# Altium integrated library Diodes - TVS.IntLib: 5379 symbols (part 37 of 122)
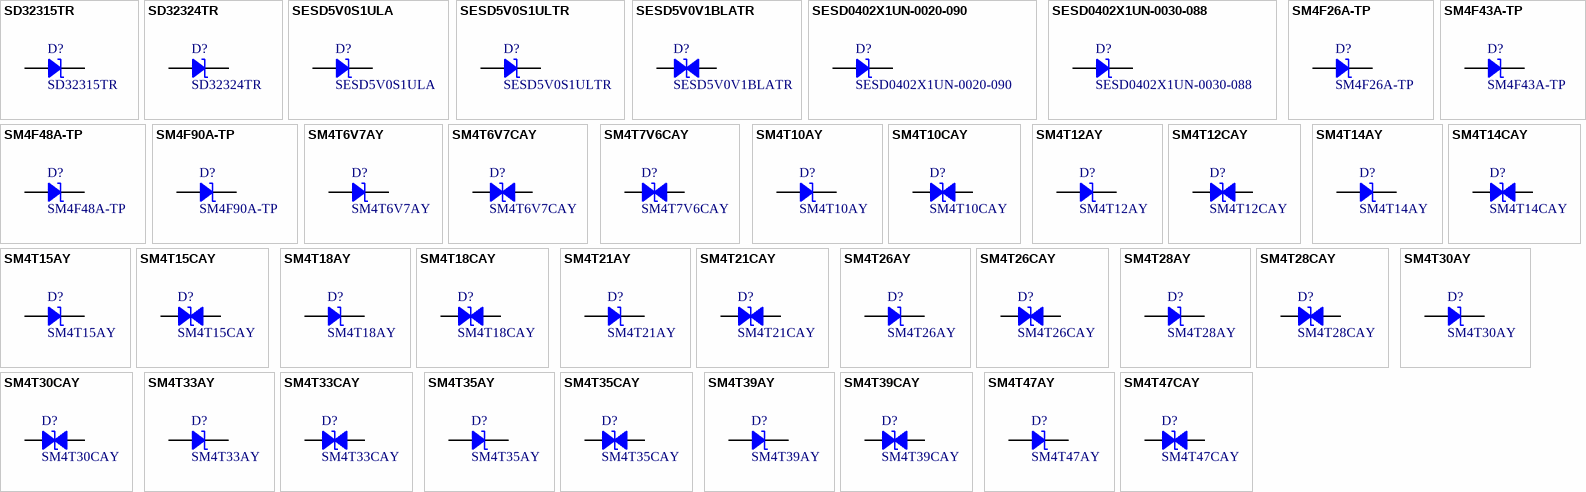
[diagram p170: symbols SD32315TR to SM4T47CAY]

## SD32315TR
designator D?
TVS DIODE 15V 24V SOD323; Manufacturer: SMC Diode Solutions; Capacitance @ Frequency: 140pF @ 1MHz; Current - Peak Pulse (10/1000µs): 1A (8/20µs); Power Line Protection: No; Power - Peak Pulse: 300W; Type: Zener; Unidirectional Channels: 1; Voltage - Breakdown (Min): 16.7V; Voltage - Reverse Standoff (Typ): 15V (Max); Part Number: SD32315TR; Applications: General Purpose; ComponentLink1Description: Datasheet; ComponentLink1URL: http://www.smc-diodes.com/propdf/SD32303%20THRU%20SD32324%20N0428%20REV.B.pdf; ComponentLink2Description: DigiKey Link; ComponentLink2URL: http://digikey.com/product-detail/en/smc-diode-solutions/SD32315TR/1655-1529-1-ND/6022974; LastUpdated: 9/2/2020 1:28:27 AM; Lifecycle Status: Active; Minimum Order: 1; Mounting Type: Surface Mount; Operating Temperature: -55°C ~ 125°C (TJ); Package / Case: SC-76, SOD-323; Packaging: TapeAndReel; PartId: 9905; Part Status: Active; Price: 0.07; Series: -; Supplier 1: DigiKey; Supplier Part Number 1: 1655-1529-1-ND; Supplier Device Package: SOD-323; Voltage - Clamping (Max) @ Ipp: 24V
footprint SOD323
pins: 1, 2

## SD32324TR
designator D?
TVS DIODE 24V 43V SOD323; Manufacturer: SMC Diode Solutions; Capacitance @ Frequency: 90pF @ 1MHz; Current - Peak Pulse (10/1000µs): 1A; Power Line Protection: No; Power - Peak Pulse: 300W; Type: Zener; Unidirectional Channels: 1; Voltage - Breakdown (Min): 26.7V; Voltage - Reverse Standoff (Typ): 24V (Max); Part Number: SD32324TR; Applications: General Purpose; ComponentLink1Description: Datasheet; ComponentLink1URL: http://www.smc-diodes.com/propdf/SD32303%20THRU%20SD32324%20N0428%20REV.B.pdf; ComponentLink2Description: DigiKey Link; ComponentLink2URL: http://digikey.com/product-detail/en/smc-diode-solutions/SD32324TR/1655-2000-1-ND/9562567; LastUpdated: 9/2/2020 1:28:26 AM; Lifecycle Status: Active; Minimum Order: 1; Mounting Type: Surface Mount; Operating Temperature: -55°C ~ 125°C (TJ); Package / Case: SC-76, SOD-323; Packaging: TapeAndReel; PartId: 9843; Part Status: Active; Price: 0.04; Series: -; Supplier 1: DigiKey; Supplier Part Number 1: 1655-2000-1-ND; Supplier Device Package: SOD-323; Voltage - Clamping (Max) @ Ipp: 43V
footprint SOD323
pins: 1, 2

## SESD5V0S1ULA
designator D?
DIODE ESD 5V DFN1006; Manufacturer: SMC Diode Solutions; Capacitance @ Frequency: 120pF @ 1MHz; Current - Peak Pulse (10/1000µs): 11A (8/20µs); Power Line Protection: No; Power - Peak Pulse: 110W; Type: Zener; Unidirectional Channels: 1; Voltage - Breakdown (Min): 6.4V; Voltage - Clamping (Max) @ Ipp: 12V; Voltage - Reverse Standoff (Typ): 5V (Max); Part Number: SESD5V0S1ULA; Applications: Automotive, Telecom; ComponentLink1Description: Datasheet; ComponentLink1URL: http://www.smc-diodes.com/propdf/SESD5V0S1ULA%20N2082%20REV.-.pdf; ComponentLink2Description: DigiKey Link; ComponentLink2URL: http://digikey.com/product-detail/en/smc-diode-solutions/SESD5V0S1ULA/1655-2134-1-ND/9806083; Device Package: 0402 (1006 Metric); LastUpdated: 9/2/2020 1:28:45 AM; Lifecycle Status: Active; Minimum Order: 1; Mounting Type: Surface Mount; Operating Temperature: 150°C (TJ); Package / Case: 0402 (1006 Metric); Packaging: TapeAndReel; PartId: 10388; Part Status: Active; Price: 0.10; Series: Automotive, AEC-Q101; Supplier 1: DigiKey; Supplier Part Number 1: 1655-2134-1-ND; Supplier Device Package: DFN1006-2L
footprint 0402
pins: 1, 2

## SESD5V0S1ULTR
designator D?
DIODE ESD 5V DFN1006; Manufacturer: SMC Diode Solutions; Capacitance @ Frequency: 150pF @ 1MHz; Current - Peak Pulse (10/1000µs): 15A; Power Line Protection: No; Power - Peak Pulse: 150W; Type: Steering (Rail to Rail); Unidirectional Channels: 1; Voltage - Breakdown (Min): 6.4V; Voltage - Clamping (Max) @ Ipp: 20V; Voltage - Reverse Standoff (Typ): 5V (Max); Part Number: SESD5V0S1ULTR; Applications: Automotive; ComponentLink1Description: Datasheet; ComponentLink1URL: http://www.smc-diodes.com/propdf/SESD5V0S1UL%20N2128%20REV.-.pdf; ComponentLink2Description: DigiKey Link; ComponentLink2URL: http://digikey.com/product-detail/en/smc-diode-solutions/SESD5V0S1ULTR/1655-2180-1-ND/10071820; Device Package: 0402 (1006 Metric); LastUpdated: 9/2/2020 1:28:45 AM; Lifecycle Status: Active; Minimum Order: 1; Mounting Type: Surface Mount; Operating Temperature: 150°C (TJ); Package / Case: 0402 (1006 Metric); Packaging: TapeAndReel; PartId: 10400; Part Status: Active; Price: 0.09; Series: Automotive, AEC-Q101; Supplier 1: DigiKey; Supplier Part Number 1: 1655-2180-1-ND; Supplier Device Package: DFN1006-2L
footprint 0402
pins: 1, 2

## SESD5V0V1BLATR
designator D?
DIODE ESD 5V BIDIRECTIONAL DFN10; Manufacturer: SMC Diode Solutions; Bidirectional Channels: 1; Capacitance @ Frequency: 15pF @ 1MHz; Current - Peak Pulse (10/1000µs): 4A (8/20µs); Power Line Protection: No; Power - Peak Pulse: 45W; Type: Zener; Voltage - Breakdown (Min): 5.8V; Voltage - Clamping (Max) @ Ipp: 12.5V; Voltage - Reverse Standoff (Typ): 5V (Max); Part Number: SESD5V0V1BLATR; Applications: General Purpose; ComponentLink1Description: Datasheet; ComponentLink1URL: //media.digikey.com/pdf/Data%20Sheets/SMC%20Diodes/SESD5V0V1BLA%20N2129%20REV.-.pdf; ComponentLink2Description: DigiKey Link; ComponentLink2URL: http://digikey.com/product-detail/en/smc-diode-solutions/SESD5V0V1BLATR/1655-2181-1-ND/10071821; Device Package: 0402 (1006 Metric); LastUpdated: 9/2/2020 1:28:49 AM; Lifecycle Status: Active; Minimum Order: 1; Mounting Type: Surface Mount; Operating Temperature: 150°C (TJ); Package / Case: 0402 (1006 Metric); Packaging: TapeAndReel; PartId: 10470; Part Status: Active; Price: 0.11; Series: -; Supplier 1: DigiKey; Supplier Part Number 1: 1655-2181-1-ND; Supplier Device Package: DFN1006-2L
footprint 0402
pins: 1, 2

## SESD0402X1UN-0020-090
designator D?
TVS DIODE 7V 9.2V 0402/2DFN; Manufacturer: Littelfuse Inc.; Capacitance @ Frequency: 0.2pF @ 3GHz; Current - Peak Pulse (10/1000µs): 2A (8/20µs); Power Line Protection: No; Type: Zener; Unidirectional Channels: 1; Voltage - Breakdown (Min): 9V (Typ); Voltage - Clamping (Max) @ Ipp: 9.2V (Typ); Voltage - Reverse Standoff (Typ): 7V (Max); Part Number: SESD0402X1UN-0020-090; Applications: Automotive, HDMI; ComponentLink1Description: Datasheet; ComponentLink1URL: https://www.littelfuse.com/~/media/electronics/datasheets/tvs_diode_arrays/littelfuse_tvs_diode_array_sesd_ultra_low_capacitance_discrete_tvs_datasheet.pdf.pdf; ComponentLink2Description: DigiKey Link; ComponentLink2URL: http://digikey.com/product-detail/en/littelfuse-inc/SESD0402X1UN-0020-090/SESD0402X1UN-0020-090CT-ND/5233523; Device Package: 0402 (1006 Metric); LastUpdated: 9/2/2020 1:28:45 AM; Lifecycle Status: Active; Minimum Order: 1; Mounting Type: Surface Mount; Operating Temperature: -55°C ~ 125°C (TJ); Package / Case: 0402 (1006 Metric); Packaging: TapeAndReel; PartId: 10402; Part Status: Active; Price: 0.16; Series: Automotive, AEC-Q101, SESD, SPA®; Supplier 1: DigiKey; Supplier Part Number 1: SESD0402X1UN-0020-090CT-ND; Supplier Device Package: 0402/2DFN (1x0.60)
footprint 0402
pins: 1, 2

## SESD0402X1UN-0030-088
designator D?
TVS DIODE 7V 13V 0402/2DFN; Manufacturer: Littelfuse Inc.; Capacitance @ Frequency: 0.3pF @ 3GHz; Current - Peak Pulse (10/1000µs): 2.5A (8/20µs); Power Line Protection: No; Type: Zener; Unidirectional Channels: 1; Voltage - Breakdown (Min): 8.8V (Typ); Voltage - Clamping (Max) @ Ipp: 13V (Typ); Voltage - Reverse Standoff (Typ): 7V (Max); Part Number: SESD0402X1UN-0030-088; Applications: Automotive, HDMI; ComponentLink1Description: Datasheet; ComponentLink1URL: https://www.littelfuse.com/~/media/electronics/datasheets/tvs_diode_arrays/littelfuse_tvs_diode_array_sesd_enhanced_esd_discrete_tvs_datasheet.pdf.pdf; ComponentLink2Description: DigiKey Link; ComponentLink2URL: http://digikey.com/product-detail/en/littelfuse-inc/SESD0402X1UN-0030-088/SESD0402X1UN-0030-088CT-ND/5233531; Device Package: 0402 (1006 Metric); LastUpdated: 9/2/2020 1:28:45 AM; Lifecycle Status: Active; Minimum Order: 1; Mounting Type: Surface Mount; Operating Temperature: -55°C ~ 125°C (TA); Package / Case: 0402 (1006 Metric); Packaging: TapeAndReel; PartId: 10379; Part Status: Active; Price: 0.14; Series: Automotive, AEC-Q101, SESD, SPA®; Supplier 1: DigiKey; Supplier Part Number 1: SESD0402X1UN-0030-088CT-ND; Supplier Device Package: 0402/2DFN (1x0.60)
footprint 0402
pins: 1, 2

## SM4F26A-TP
designator D?
400WTVSSOD-123FL; Manufacturer: Micro Commercial Co; Current - Peak Pulse (10/1000µs): 9.5A; Power Line Protection: No; Power - Peak Pulse: 400W; Type: Zener; Unidirectional Channels: 1; Voltage - Breakdown (Min): 28.9V; Voltage - Clamping (Max) @ Ipp: 42.1V; Voltage - Reverse Standoff (Typ): 26V; Part Number: SM4F26A-TP; Applications: General Purpose; ComponentLink1Description: Datasheet; ComponentLink1URL: https://www.mccsemi.com/pdf/Products/SM4F5.0A-170A(SOD-123FL)-V1.pdf; ComponentLink2Description: DigiKey Link; ComponentLink2URL: http://digikey.com/product-detail/en/micro-commercial-co/SM4F26A-TP/SM4F26A-TPMSCT-ND/10054415; LastUpdated: 9/2/2020 1:28:37 AM; Lifecycle Status: Active; Minimum Order: 1; Mounting Type: Surface Mount; Operating Temperature: -55°C ~ 150°C (TJ); Package / Case: SOD-123F; Packaging: TapeAndReel; PartId: 10167; Part Status: Active; Price: 0.13; Series: -; Supplier 1: DigiKey; Supplier Part Number 1: SM4F26A-TPMSCT-ND; Supplier Device Package: SOD-123FL
footprint SOD123F
pins: 1, 2

## SM4F43A-TP
designator D?
43V, 400W, UNIDIRECTIONAL TVS, S; Manufacturer: Micro Commercial Co; Current - Peak Pulse (10/1000µs): 5.7A; Power Line Protection: No; Type: Zener; Unidirectional Channels: 1; Voltage - Breakdown (Min): 47.8V; Voltage - Clamping (Max) @ Ipp: 69.4V; Part Number: SM4F43A-TP; Applications: General Purpose; ComponentLink1Description: Datasheet; ComponentLink1URL: https://www.mccsemi.com/pdf/Products/SM4F5.0A-170A(SOD-123FL)-B.pdf; ComponentLink2Description: DigiKey Link; ComponentLink2URL: http://digikey.com/product-detail/en/micro-commercial-co/SM4F43A-TP/SM4F43A-TPMSCT-ND/8554559; LastUpdated: 9/2/2020 1:28:37 AM; Lifecycle Status: Active; Minimum Order: 1; Mounting Type: Surface Mount; Operating Temperature: -55°C ~ 150°C (TA); Package / Case: SOD-123F; Packaging: TapeAndReel; PartId: 10165; Part Status: Active; Power - Peak Pulse: 400W; Price: 0.13; Series: -; Supplier 1: DigiKey; Supplier Part Number 1: SM4F43A-TPMSCT-ND; Supplier Device Package: SOD-123FL; Voltage - Reverse Standoff (Typ): 43V
footprint SOD123F
pins: 1, 2

## SM4F48A-TP
designator D?
400WTVSSOD-123FL; Manufacturer: Micro Commercial Co; Current - Peak Pulse (10/1000µs): 5.2A; Power Line Protection: No; Power - Peak Pulse: 400W; Type: Zener; Unidirectional Channels: 1; Voltage - Breakdown (Min): 53.3V; Voltage - Clamping (Max) @ Ipp: 77.4V; Voltage - Reverse Standoff (Typ): 48V; Part Number: SM4F48A-TP; Applications: General Purpose; ComponentLink1Description: Datasheet; ComponentLink1URL: https://www.mccsemi.com/pdf/Products/SM4F5.0A-170A(SOD-123FL)-V1.pdf; ComponentLink2Description: DigiKey Link; ComponentLink2URL: http://digikey.com/product-detail/en/micro-commercial-co/SM4F48A-TP/SM4F48A-TPMSCT-ND/10054416; LastUpdated: 9/2/2020 1:28:37 AM; Lifecycle Status: Active; Minimum Order: 1; Mounting Type: Surface Mount; Operating Temperature: -55°C ~ 150°C (TJ); Package / Case: SOD-123F; Packaging: TapeAndReel; PartId: 10168; Part Status: Active; Price: 0.13; Series: -; Supplier 1: DigiKey; Supplier Part Number 1: SM4F48A-TPMSCT-ND; Supplier Device Package: SOD-123FL
footprint SOD123F
pins: 1, 2

## SM4F90A-TP
designator D?
90V, 400W, UNIDIRECTIONAL TVS, S; Manufacturer: Micro Commercial Co; Current - Peak Pulse (10/1000µs): 2.7A; Power Line Protection: No; Type: Zener; Unidirectional Channels: 1; Voltage - Breakdown (Min): 100V; Voltage - Clamping (Max) @ Ipp: 146V; Part Number: SM4F90A-TP; Applications: General Purpose; ComponentLink1Description: Datasheet; ComponentLink1URL: https://www.mccsemi.com/pdf/Products/SM4F5.0A-170A(SOD-123FL)-B.pdf; ComponentLink2Description: DigiKey Link; ComponentLink2URL: http://digikey.com/product-detail/en/micro-commercial-co/SM4F90A-TP/SM4F90A-TPMSCT-ND/8554560; LastUpdated: 9/2/2020 1:28:37 AM; Lifecycle Status: Active; Minimum Order: 1; Mounting Type: Surface Mount; Operating Temperature: -55°C ~ 150°C (TA); Package / Case: SOD-123F; Packaging: TapeAndReel; PartId: 10169; Part Status: Active; Power - Peak Pulse: 400W; Price: 0.13; Series: -; Supplier 1: DigiKey; Supplier Part Number 1: SM4F90A-TPMSCT-ND; Supplier Device Package: SOD-123FL; Voltage - Reverse Standoff (Typ): 90V
footprint SOD123F
pins: 1, 2

## SM4T6V7AY
designator D?
TVS DIODE 5V 13.4V SMA; Manufacturer: STMicroelectronics; Current - Peak Pulse (10/1000µs): 174A (8/20µs); Power Line Protection: No; Power - Peak Pulse: 400W; Type: Zener; Unidirectional Channels: 1; Voltage - Breakdown (Min): 6.4V; Part Number: SM4T6V7AY; Applications: Automotive; ComponentLink1Description: Datasheet; ComponentLink1URL: http://www.st.com/content/ccc/resource/technical/document/datasheet/8f/86/c4/c9/63/e2/4c/58/CD00283395.pdf/files/CD00283395.pdf/jcr:content/translations/en.CD00283395.pdf; ComponentLink2Description: DigiKey Link; ComponentLink2URL: http://digikey.com/product-detail/en/stmicroelectronics/SM4T6V7AY/497-11798-1-ND/2756610; LastUpdated: 9/2/2020 1:20:14 AM; Lifecycle Status: Active; Minimum Order: 1; Mounting Type: Surface Mount; Operating Temperature: -55°C ~ 150°C (TJ); Package / Case: DO-214AC, SMA; Packaging: TapeAndReel; PartId: 5731; Part Status: Active; Price: 0.17; Series: Automotive, AEC-Q101, SM4TY, TRANSIL™; Supplier 1: DigiKey; Supplier Part Number 1: 497-11798-1-ND; Supplier Device Package: SMA (DO-214AC); Voltage - Clamping (Max) @ Ipp: 13.4V; Voltage - Reverse Standoff (Typ): 5V
footprint DO214AC SMA
pins: 1, 2

## SM4T6V7CAY
designator D?
TVS DIODE 5V 13.4V SMA; Manufacturer: STMicroelectronics; Bidirectional Channels: 1; Current - Peak Pulse (10/1000µs): 174A (8/20µs); Power Line Protection: No; Power - Peak Pulse: 400W; Type: Zener; Voltage - Breakdown (Min): 6.4V; Part Number: SM4T6V7CAY; Applications: Automotive; ComponentLink1Description: Datasheet; ComponentLink1URL: http://www.st.com/content/ccc/resource/technical/document/datasheet/8f/86/c4/c9/63/e2/4c/58/CD00283395.pdf/files/CD00283395.pdf/jcr:content/translations/en.CD00283395.pdf; ComponentLink2Description: DigiKey Link; ComponentLink2URL: http://digikey.com/product-detail/en/stmicroelectronics/SM4T6V7CAY/497-10932-1-ND/2522555; LastUpdated: 9/2/2020 1:27:53 AM; Lifecycle Status: Active; Minimum Order: 1; Mounting Type: Surface Mount; Operating Temperature: -55°C ~ 150°C (TJ); Package / Case: DO-214AC, SMA; Packaging: TapeAndReel; PartId: 7536; Part Status: Active; Price: 0.31; Series: Automotive, AEC-Q101, SM4TY, TRANSIL™; Supplier 1: DigiKey; Supplier Part Number 1: 497-10932-1-ND; Supplier Device Package: SMA (DO-214AC); Voltage - Clamping (Max) @ Ipp: 13.4V; Voltage - Reverse Standoff (Typ): 5V
footprint DO214AC SMA
pins: 1, 2

## SM4T7V6CAY
designator D?
TVS DIODE 6.5V 14.5V SMA; Manufacturer: STMicroelectronics; Bidirectional Channels: 1; Current - Peak Pulse (10/1000µs): 160A (8/20µs); Power Line Protection: No; Power - Peak Pulse: 400W; Type: Zener; Voltage - Breakdown (Min): 7.2V; Part Number: SM4T7V6CAY; Applications: Automotive; ComponentLink1Description: Datasheet; ComponentLink1URL: http://www.st.com/content/ccc/resource/technical/document/datasheet/8f/86/c4/c9/63/e2/4c/58/CD00283395.pdf/files/CD00283395.pdf/jcr:content/translations/en.CD00283395.pdf; ComponentLink2Description: DigiKey Link; ComponentLink2URL: http://digikey.com/product-detail/en/stmicroelectronics/SM4T7V6CAY/497-11800-1-ND/2756620; LastUpdated: 9/2/2020 1:27:52 AM; Lifecycle Status: Active; Minimum Order: 1; Mounting Type: Surface Mount; Operating Temperature: -55°C ~ 150°C (TJ); Package / Case: DO-214AC, SMA; Packaging: TapeAndReel; PartId: 7433; Part Status: Active; Price: 0.18; Series: Automotive, AEC-Q101, SM4TY, TRANSIL™; Supplier 1: DigiKey; Supplier Part Number 1: 497-11800-1-ND; Supplier Device Package: SMA (DO-214AC); Voltage - Clamping (Max) @ Ipp: 14.5V; Voltage - Reverse Standoff (Typ): 6.5V
footprint DO214AC SMA
pins: 1, 2

## SM4T10AY
designator D?
TVS DIODE 8.5V 19.5V SMA; Manufacturer: STMicroelectronics; Current - Peak Pulse (10/1000µs): 124A (8/20µs); Power Line Protection: No; Power - Peak Pulse: 400W; Type: Zener; Unidirectional Channels: 1; Voltage - Breakdown (Min): 9.4V; Part Number: SM4T10AY; Applications: Automotive; ComponentLink1Description: Datasheet; ComponentLink1URL: http://www.st.com/content/ccc/resource/technical/document/datasheet/8f/86/c4/c9/63/e2/4c/58/CD00283395.pdf/files/CD00283395.pdf/jcr:content/translations/en.CD00283395.pdf; ComponentLink2Description: DigiKey Link; ComponentLink2URL: http://digikey.com/product-detail/en/stmicroelectronics/SM4T10AY/497-11788-1-ND/2756629; LastUpdated: 9/2/2020 1:20:13 AM; Lifecycle Status: Active; Minimum Order: 1; Mounting Type: Surface Mount; Operating Temperature: -55°C ~ 150°C (TJ); Package / Case: DO-214AC, SMA; Packaging: TapeAndReel; PartId: 5573; Part Status: Active; Price: 0.17; Series: Automotive, AEC-Q101, SM4TY, TRANSIL™; Supplier 1: DigiKey; Supplier Part Number 1: 497-11788-1-ND; Supplier Device Package: SMA (DO-214AC); Voltage - Clamping (Max) @ Ipp: 19.5V; Voltage - Reverse Standoff (Typ): 8.5V
footprint DO214AC SMA
pins: 1, 2

## SM4T10CAY
designator D?
TVS DIODE 8.5V 19.5V SMA; Manufacturer: STMicroelectronics; Bidirectional Channels: 1; Current - Peak Pulse (10/1000µs): 124A (8/20µs); Power Line Protection: No; Power - Peak Pulse: 400W; Type: Zener; Voltage - Breakdown (Min): 9.4V; Part Number: SM4T10CAY; Applications: Automotive; ComponentLink1Description: Datasheet; ComponentLink1URL: http://www.st.com/content/ccc/resource/technical/document/datasheet/8f/86/c4/c9/63/e2/4c/58/CD00283395.pdf/files/CD00283395.pdf/jcr:content/translations/en.CD00283395.pdf; ComponentLink2Description: DigiKey Link; ComponentLink2URL: http://digikey.com/product-detail/en/stmicroelectronics/SM4T10CAY/497-11789-1-ND/2756619; LastUpdated: 9/2/2020 1:27:52 AM; Lifecycle Status: Active; Minimum Order: 1; Mounting Type: Surface Mount; Operating Temperature: -55°C ~ 150°C (TJ); Package / Case: DO-214AC, SMA; Packaging: TapeAndReel; PartId: 7434; Part Status: Active; Price: 0.18; Series: Automotive, AEC-Q101, SM4TY, TRANSIL™; Supplier 1: DigiKey; Supplier Part Number 1: 497-11789-1-ND; Supplier Device Package: SMA (DO-214AC); Voltage - Clamping (Max) @ Ipp: 19.5V; Voltage - Reverse Standoff (Typ): 8.5V
footprint DO214AC SMA
pins: 1, 2

## SM4T12AY
designator D?
TVS DIODE 10VWM 21.7VC SMA; Manufacturer: STMicroelectronics; Current - Peak Pulse (10/1000µs): 106A (8/20µs); Power Line Protection: No; Power - Peak Pulse: 400W; Type: Zener; Unidirectional Channels: 1; Voltage - Breakdown (Min): 11.1V; Voltage - Clamping (Max) @ Ipp: 21.7V; Voltage - Reverse Standoff (Typ): 10V; Part Number: SM4T12AY; Applications: Automotive; ComponentLink1Description: Datasheet; ComponentLink1URL: http://www.st.com/content/ccc/resource/technical/document/datasheet/8f/86/c4/c9/63/e2/4c/58/CD00283395.pdf/files/CD00283395.pdf/jcr:content/translations/en.CD00283395.pdf; ComponentLink2Description: DigiKey Link; ComponentLink2URL: http://digikey.com/product-detail/en/stmicroelectronics/SM4T12AY/497-11790-1-ND/2756618; LastUpdated: 9/2/2020 1:20:14 AM; Lifecycle Status: Active; Minimum Order: 1; Mounting Type: Surface Mount; Operating Temperature: -55°C ~ 150°C (TJ); Package / Case: DO-214AC, SMA; Packaging: TapeAndReel; PartId: 5726; Part Status: Active; Price: 0.17; Series: Automotive, AEC-Q101, SM4TY, TRANSIL™; Supplier 1: DigiKey; Supplier Part Number 1: 497-11790-1-ND; Supplier Device Package: SMA (DO-214AC)
footprint DO214AC SMA
pins: 1, 2

## SM4T12CAY
designator D?
TVS DIODE 10V 21.7V SMA; Manufacturer: STMicroelectronics; Bidirectional Channels: 1; Current - Peak Pulse (10/1000µs): 106A (8/20µs); Power Line Protection: No; Power - Peak Pulse: 400W; Type: Zener; Voltage - Breakdown (Min): 11.1V; Part Number: SM4T12CAY; Applications: Automotive; ComponentLink1Description: Datasheet; ComponentLink1URL: http://www.st.com/content/ccc/resource/technical/document/datasheet/8f/86/c4/c9/63/e2/4c/58/CD00283395.pdf/files/CD00283395.pdf/jcr:content/translations/en.CD00283395.pdf; ComponentLink2Description: DigiKey Link; ComponentLink2URL: http://digikey.com/product-detail/en/stmicroelectronics/SM4T12CAY/497-11791-1-ND/2756617; LastUpdated: 9/2/2020 1:27:51 AM; Lifecycle Status: Active; Minimum Order: 1; Mounting Type: Surface Mount; Operating Temperature: -55°C ~ 150°C (TJ); Package / Case: DO-214AC, SMA; Packaging: TapeAndReel; PartId: 7360; Part Status: Active; Price: 0.18; Series: Automotive, AEC-Q101, SM4TY, TRANSIL™; Supplier 1: DigiKey; Supplier Part Number 1: 497-11791-1-ND; Supplier Device Package: SMA (DO-214AC); Voltage - Clamping (Max) @ Ipp: 21.7V; Voltage - Reverse Standoff (Typ): 10V
footprint DO214AC SMA
pins: 1, 2

## SM4T14AY
designator D?
TVS DIODE 12V 25.3V SMA; Manufacturer: STMicroelectronics; Current - Peak Pulse (10/1000µs): 91A (8/20µs); Power Line Protection: No; Power - Peak Pulse: 400W; Type: Zener; Unidirectional Channels: 1; Voltage - Breakdown (Min): 13.3V; Part Number: SM4T14AY; Applications: Automotive; ComponentLink1Description: Datasheet; ComponentLink1URL: http://www.st.com/content/ccc/resource/technical/document/datasheet/8f/86/c4/c9/63/e2/4c/58/CD00283395.pdf/files/CD00283395.pdf/jcr:content/translations/en.CD00283395.pdf; ComponentLink2Description: DigiKey Link; ComponentLink2URL: http://digikey.com/product-detail/en/stmicroelectronics/SM4T14AY/497-11792-1-ND/2756616; LastUpdated: 9/2/2020 1:20:18 AM; Lifecycle Status: Active; Minimum Order: 1; Mounting Type: Surface Mount; Operating Temperature: -55°C ~ 150°C (TJ); Package / Case: DO-214AC, SMA; Packaging: TapeAndReel; PartId: 6166; Part Status: Active; Price: 0.17; Series: Automotive, AEC-Q101, SM4TY, TRANSIL™; Supplier 1: DigiKey; Supplier Part Number 1: 497-11792-1-ND; Supplier Device Package: SMA (DO-214AC); Voltage - Clamping (Max) @ Ipp: 25.3V; Voltage - Reverse Standoff (Typ): 12V
footprint DO214AC SMA
pins: 1, 2

## SM4T14CAY
designator D?
TVS DIODE 12V 25.3V SMA; Manufacturer: STMicroelectronics; Bidirectional Channels: 1; Current - Peak Pulse (10/1000µs): 91A (8/20µs); Power Line Protection: No; Power - Peak Pulse: 400W; Type: Zener; Voltage - Breakdown (Min): 13.3V; Part Number: SM4T14CAY; Applications: Automotive; ComponentLink1Description: Datasheet; ComponentLink1URL: http://www.st.com/content/ccc/resource/technical/document/datasheet/8f/86/c4/c9/63/e2/4c/58/CD00283395.pdf/files/CD00283395.pdf/jcr:content/translations/en.CD00283395.pdf; ComponentLink2Description: DigiKey Link; ComponentLink2URL: http://digikey.com/product-detail/en/stmicroelectronics/SM4T14CAY/497-11793-1-ND/2756613; LastUpdated: 9/2/2020 1:27:55 AM; Lifecycle Status: Active; Minimum Order: 1; Mounting Type: Surface Mount; Operating Temperature: -55°C ~ 150°C (TJ); Package / Case: DO-214AC, SMA; Packaging: TapeAndReel; PartId: 7795; Part Status: Active; Price: 0.18; Series: Automotive, AEC-Q101, SM4TY, TRANSIL™; Supplier 1: DigiKey; Supplier Part Number 1: 497-11793-1-ND; Supplier Device Package: SMA (DO-214AC); Voltage - Clamping (Max) @ Ipp: 25.3V; Voltage - Reverse Standoff (Typ): 12V
footprint DO214AC SMA
pins: 1, 2

## SM4T15AY
designator D?
TVS DIODE 13V 27.2V SMA; Manufacturer: STMicroelectronics; Current - Peak Pulse (10/1000µs): 85A (8/20µs); Power Line Protection: No; Power - Peak Pulse: 400W; Type: Zener; Unidirectional Channels: 1; Voltage - Breakdown (Min): 14.4V; Part Number: SM4T15AY; Applications: Automotive; ComponentLink1Description: Datasheet; ComponentLink1URL: http://www.st.com/content/ccc/resource/technical/document/datasheet/8f/86/c4/c9/63/e2/4c/58/CD00283395.pdf/files/CD00283395.pdf/jcr:content/translations/en.CD00283395.pdf; ComponentLink2Description: DigiKey Link; ComponentLink2URL: http://digikey.com/product-detail/en/stmicroelectronics/SM4T15AY/497-11794-1-ND/2756614; LastUpdated: 9/2/2020 1:20:14 AM; Lifecycle Status: Active; Minimum Order: 1; Mounting Type: Surface Mount; Operating Temperature: -55°C ~ 150°C (TJ); Package / Case: DO-214AC, SMA; Packaging: TapeAndReel; PartId: 5725; Part Status: Active; Price: 0.17; Series: Automotive, AEC-Q101, SM4TY, TRANSIL™; Supplier 1: DigiKey; Supplier Part Number 1: 497-11794-1-ND; Supplier Device Package: SMA (DO-214AC); Voltage - Clamping (Max) @ Ipp: 27.2V; Voltage - Reverse Standoff (Typ): 13V
footprint DO214AC SMA
pins: 1, 2

## SM4T15CAY
designator D?
TVS DIODE 13V 27.2V SMA; Manufacturer: STMicroelectronics; Bidirectional Channels: 1; Current - Peak Pulse (10/1000µs): 85A (8/20µs); Power Line Protection: No; Power - Peak Pulse: 400W; Type: Zener; Voltage - Breakdown (Min): 14.4V; Part Number: SM4T15CAY; Applications: Automotive; ComponentLink1Description: Datasheet; ComponentLink1URL: http://www.st.com/content/ccc/resource/technical/document/datasheet/8f/86/c4/c9/63/e2/4c/58/CD00283395.pdf/files/CD00283395.pdf/jcr:content/translations/en.CD00283395.pdf; ComponentLink2Description: DigiKey Link; ComponentLink2URL: http://digikey.com/product-detail/en/stmicroelectronics/SM4T15CAY/497-11795-1-ND/2756608; LastUpdated: 9/2/2020 1:27:51 AM; Lifecycle Status: Active; Minimum Order: 1; Mounting Type: Surface Mount; Operating Temperature: -55°C ~ 150°C (TJ); Package / Case: DO-214AC, SMA; Packaging: TapeAndReel; PartId: 7362; Part Status: Active; Price: 0.18; Series: Automotive, AEC-Q101, SM4TY, TRANSIL™; Supplier 1: DigiKey; Supplier Part Number 1: 497-11795-1-ND; Supplier Device Package: SMA (DO-214AC); Voltage - Clamping (Max) @ Ipp: 27.2V; Voltage - Reverse Standoff (Typ): 13V
footprint DO214AC SMA
pins: 1, 2

## SM4T18AY
designator D?
TVS DIODE 15V 32.5V SMA; Manufacturer: STMicroelectronics; Current - Peak Pulse (10/1000µs): 71A (8/20µs); Power Line Protection: No; Power - Peak Pulse: 400W; Type: Zener; Unidirectional Channels: 1; Voltage - Breakdown (Min): 16.7V; Part Number: SM4T18AY; Applications: Automotive; ComponentLink1Description: Datasheet; ComponentLink1URL: http://www.st.com/content/ccc/resource/technical/document/datasheet/8f/86/c4/c9/63/e2/4c/58/CD00283395.pdf/files/CD00283395.pdf/jcr:content/translations/en.CD00283395.pdf; ComponentLink2Description: DigiKey Link; ComponentLink2URL: http://digikey.com/product-detail/en/stmicroelectronics/SM4T18AY/497-10908-1-ND/2522531; LastUpdated: 9/2/2020 1:20:14 AM; Lifecycle Status: Active; Minimum Order: 1; Mounting Type: Surface Mount; Operating Temperature: -55°C ~ 150°C (TJ); Package / Case: DO-214AC, SMA; Packaging: TapeAndReel; PartId: 5740; Part Status: Active; Price: 0.30; Series: Automotive, AEC-Q101, SM4TY, TRANSIL™; Supplier 1: DigiKey; Supplier Part Number 1: 497-10908-1-ND; Supplier Device Package: SMA (DO-214AC); Voltage - Clamping (Max) @ Ipp: 32.5V; Voltage - Reverse Standoff (Typ): 15V
footprint DO214AC SMA
pins: 1, 2

## SM4T18CAY
designator D?
TVS DIODE 15V 32.5V SMA; Manufacturer: STMicroelectronics; Bidirectional Channels: 1; Current - Peak Pulse (10/1000µs): 71A (8/20µs); Power Line Protection: No; Power - Peak Pulse: 400W; Type: Zener; Voltage - Breakdown (Min): 16.7V; Part Number: SM4T18CAY; Applications: Automotive; ComponentLink1Description: Datasheet; ComponentLink1URL: http://www.st.com/content/ccc/resource/technical/document/datasheet/8f/86/c4/c9/63/e2/4c/58/CD00283395.pdf/files/CD00283395.pdf/jcr:content/translations/en.CD00283395.pdf; ComponentLink2Description: DigiKey Link; ComponentLink2URL: http://digikey.com/product-detail/en/stmicroelectronics/SM4T18CAY/497-10909-1-ND/2522532; LastUpdated: 9/2/2020 1:27:55 AM; Lifecycle Status: Active; Minimum Order: 1; Mounting Type: Surface Mount; Operating Temperature: -55°C ~ 150°C (TJ); Package / Case: DO-214AC, SMA; Packaging: TapeAndReel; PartId: 7828; Part Status: Active; Price: 0.31; Series: Automotive, AEC-Q101, SM4TY, TRANSIL™; Supplier 1: DigiKey; Supplier Part Number 1: 497-10909-1-ND; Supplier Device Package: SMA (DO-214AC); Voltage - Clamping (Max) @ Ipp: 32.5V; Voltage - Reverse Standoff (Typ): 15V
footprint DO214AC SMA
pins: 1, 2

## SM4T21AY
designator D?
TVS DIODE 18V 39.3V SMA; Manufacturer: STMicroelectronics; Current - Peak Pulse (10/1000µs): 59A (8/20µs); Power Line Protection: No; Power - Peak Pulse: 400W; Type: Zener; Unidirectional Channels: 1; Voltage - Breakdown (Min): 20V; Part Number: SM4T21AY; Applications: Automotive; ComponentLink1Description: Datasheet; ComponentLink1URL: http://www.st.com/content/ccc/resource/technical/document/datasheet/8f/86/c4/c9/63/e2/4c/58/CD00283395.pdf/files/CD00283395.pdf/jcr:content/translations/en.CD00283395.pdf; ComponentLink2Description: DigiKey Link; ComponentLink2URL: http://digikey.com/product-detail/en/stmicroelectronics/SM4T21AY/497-10910-1-ND/2522533; LastUpdated: 9/2/2020 1:20:14 AM; Lifecycle Status: Active; Minimum Order: 1; Mounting Type: Surface Mount; Operating Temperature: -55°C ~ 150°C (TJ); Package / Case: DO-214AC, SMA; Packaging: TapeAndReel; PartId: 5739; Part Status: Active; Price: 0.30; Series: Automotive, AEC-Q101, SM4TY, TRANSIL™; Supplier 1: DigiKey; Supplier Part Number 1: 497-10910-1-ND; Supplier Device Package: SMA (DO-214AC); Voltage - Clamping (Max) @ Ipp: 39.3V; Voltage - Reverse Standoff (Typ): 18V
footprint DO214AC SMA
pins: 1, 2

## SM4T21CAY
designator D?
TVS DIODE 18V 39.3V SMA; Manufacturer: STMicroelectronics; Bidirectional Channels: 1; Current - Peak Pulse (10/1000µs): 59A (8/20µs); Power Line Protection: No; Power - Peak Pulse: 400W; Type: Zener; Voltage - Breakdown (Min): 20V; Part Number: SM4T21CAY; Applications: Automotive; ComponentLink1Description: Datasheet; ComponentLink1URL: http://www.st.com/content/ccc/resource/technical/document/datasheet/8f/86/c4/c9/63/e2/4c/58/CD00283395.pdf/files/CD00283395.pdf/jcr:content/translations/en.CD00283395.pdf; ComponentLink2Description: DigiKey Link; ComponentLink2URL: http://digikey.com/product-detail/en/stmicroelectronics/SM4T21CAY/497-10911-1-ND/2522534; LastUpdated: 9/2/2020 1:27:51 AM; Lifecycle Status: Active; Minimum Order: 1; Mounting Type: Surface Mount; Operating Temperature: -55°C ~ 150°C (TJ); Package / Case: DO-214AC, SMA; Packaging: TapeAndReel; PartId: 7400; Part Status: Active; Price: 0.31; Series: Automotive, AEC-Q101, SM4TY, TRANSIL™; Supplier 1: DigiKey; Supplier Part Number 1: 497-10911-1-ND; Supplier Device Package: SMA (DO-214AC); Voltage - Clamping (Max) @ Ipp: 39.3V; Voltage - Reverse Standoff (Typ): 18V
footprint DO214AC SMA
pins: 1, 2

## SM4T26AY
designator D?
TVS DIODE 22V 48.3V SMA; Manufacturer: STMicroelectronics; Current - Peak Pulse (10/1000µs): 48A (8/20µs); Power Line Protection: No; Power - Peak Pulse: 400W; Type: Zener; Unidirectional Channels: 1; Voltage - Breakdown (Min): 24.4V; Part Number: SM4T26AY; Applications: Automotive; ComponentLink1Description: Datasheet; ComponentLink1URL: http://www.st.com/content/ccc/resource/technical/document/datasheet/8f/86/c4/c9/63/e2/4c/58/CD00283395.pdf/files/CD00283395.pdf/jcr:content/translations/en.CD00283395.pdf; ComponentLink2Description: DigiKey Link; ComponentLink2URL: http://digikey.com/product-detail/en/stmicroelectronics/SM4T26AY/497-10914-1-ND/2522537; LastUpdated: 9/2/2020 1:20:13 AM; Lifecycle Status: Active; Minimum Order: 1; Mounting Type: Surface Mount; Operating Temperature: -55°C ~ 150°C (TJ); Package / Case: DO-214AC, SMA; Packaging: TapeAndReel; PartId: 5613; Part Status: Active; Price: 0.30; Series: Automotive, AEC-Q101, SM4TY, TRANSIL™; Supplier 1: DigiKey; Supplier Part Number 1: 497-10914-1-ND; Supplier Device Package: SMA (DO-214AC); Voltage - Clamping (Max) @ Ipp: 48.3V; Voltage - Reverse Standoff (Typ): 22V
footprint DO214AC SMA
pins: 1, 2

## SM4T26CAY
designator D?
TVS DIODE 22V 48.3V SMA; Manufacturer: STMicroelectronics; Bidirectional Channels: 1; Current - Peak Pulse (10/1000µs): 48A (8/20µs); Power Line Protection: No; Power - Peak Pulse: 400W; Type: Zener; Voltage - Breakdown (Min): 24.4V; Part Number: SM4T26CAY; Applications: Automotive; ComponentLink1Description: Datasheet; ComponentLink1URL: http://www.st.com/content/ccc/resource/technical/document/datasheet/8f/86/c4/c9/63/e2/4c/58/CD00283395.pdf/files/CD00283395.pdf/jcr:content/translations/en.CD00283395.pdf; ComponentLink2Description: DigiKey Link; ComponentLink2URL: http://digikey.com/product-detail/en/stmicroelectronics/SM4T26CAY/497-10915-1-ND/2522538; LastUpdated: 9/2/2020 1:27:53 AM; Lifecycle Status: Active; Minimum Order: 1; Mounting Type: Surface Mount; Operating Temperature: -55°C ~ 150°C (TJ); Package / Case: DO-214AC, SMA; Packaging: TapeAndReel; PartId: 7539; Part Status: Active; Price: 0.31; Series: Automotive, AEC-Q101, SM4TY, TRANSIL™; Supplier 1: DigiKey; Supplier Part Number 1: 497-10915-1-ND; Supplier Device Package: SMA (DO-214AC); Voltage - Clamping (Max) @ Ipp: 48.3V; Voltage - Reverse Standoff (Typ): 22V
footprint DO214AC SMA
pins: 1, 2

## SM4T28AY
designator D?
TVS DIODE 24V 50V SMA; Manufacturer: STMicroelectronics; Current - Peak Pulse (10/1000µs): 46A (8/20µs); Power Line Protection: No; Power - Peak Pulse: 400W; Type: Zener; Unidirectional Channels: 1; Voltage - Breakdown (Min): 26.7V; Part Number: SM4T28AY; Applications: Automotive; ComponentLink1Description: Datasheet; ComponentLink1URL: http://www.st.com/content/ccc/resource/technical/document/datasheet/8f/86/c4/c9/63/e2/4c/58/CD00283395.pdf/files/CD00283395.pdf/jcr:content/translations/en.CD00283395.pdf; ComponentLink2Description: DigiKey Link; ComponentLink2URL: http://digikey.com/product-detail/en/stmicroelectronics/SM4T28AY/497-10916-1-ND/2522539; LastUpdated: 9/2/2020 1:20:14 AM; Lifecycle Status: Active; Minimum Order: 1; Mounting Type: Surface Mount; Operating Temperature: -55°C ~ 150°C (TJ); Package / Case: DO-214AC, SMA; Packaging: TapeAndReel; PartId: 5738; Part Status: Active; Price: 0.30; Series: Automotive, AEC-Q101, SM4TY, TRANSIL™; Supplier 1: DigiKey; Supplier Part Number 1: 497-10916-1-ND; Supplier Device Package: SMA (DO-214AC); Voltage - Clamping (Max) @ Ipp: 50V; Voltage - Reverse Standoff (Typ): 24V
footprint DO214AC SMA
pins: 1, 2

## SM4T28CAY
designator D?
TVS DIODE 24V 50V SMA; Manufacturer: STMicroelectronics; Bidirectional Channels: 1; Current - Peak Pulse (10/1000µs): 46A (8/20µs); Power Line Protection: No; Power - Peak Pulse: 400W; Type: Zener; Voltage - Breakdown (Min): 26.7V; Part Number: SM4T28CAY; Applications: Automotive; ComponentLink1Description: Datasheet; ComponentLink1URL: http://www.st.com/content/ccc/resource/technical/document/datasheet/8f/86/c4/c9/63/e2/4c/58/CD00283395.pdf/files/CD00283395.pdf/jcr:content/translations/en.CD00283395.pdf; ComponentLink2Description: DigiKey Link; ComponentLink2URL: http://digikey.com/product-detail/en/stmicroelectronics/SM4T28CAY/497-10917-1-ND/2522540; LastUpdated: 9/2/2020 1:27:53 AM; Lifecycle Status: Active; Minimum Order: 1; Mounting Type: Surface Mount; Operating Temperature: -55°C ~ 150°C (TJ); Package / Case: DO-214AC, SMA; Packaging: TapeAndReel; PartId: 7538; Part Status: Active; Price: 0.31; Series: Automotive, AEC-Q101, SM4TY, TRANSIL™; Supplier 1: DigiKey; Supplier Part Number 1: 497-10917-1-ND; Supplier Device Package: SMA (DO-214AC); Voltage - Clamping (Max) @ Ipp: 50V; Voltage - Reverse Standoff (Typ): 24V
footprint DO214AC SMA
pins: 1, 2

## SM4T30AY
designator D?
TVS DIODE 26V 53.5V SMA; Manufacturer: STMicroelectronics; Current - Peak Pulse (10/1000µs): 43A (8/20µs); Power Line Protection: No; Power - Peak Pulse: 400W; Type: Zener; Unidirectional Channels: 1; Voltage - Breakdown (Min): 28.9V; Part Number: SM4T30AY; Applications: Automotive; ComponentLink1Description: Datasheet; ComponentLink1URL: http://www.st.com/content/ccc/resource/technical/document/datasheet/8f/86/c4/c9/63/e2/4c/58/CD00283395.pdf/files/CD00283395.pdf/jcr:content/translations/en.CD00283395.pdf; ComponentLink2Description: DigiKey Link; ComponentLink2URL: http://digikey.com/product-detail/en/stmicroelectronics/SM4T30AY/497-10918-1-ND/2522541; LastUpdated: 9/2/2020 1:20:16 AM; Lifecycle Status: Active; Minimum Order: 1; Mounting Type: Surface Mount; Operating Temperature: -55°C ~ 150°C (TJ); Package / Case: DO-214AC, SMA; Packaging: TapeAndReel; PartId: 5888; Part Status: Active; Price: 0.30; Series: Automotive, AEC-Q101, SM4TY, TRANSIL™; Supplier 1: DigiKey; Supplier Part Number 1: 497-10918-1-ND; Supplier Device Package: SMA (DO-214AC); Voltage - Clamping (Max) @ Ipp: 53.5V; Voltage - Reverse Standoff (Typ): 26V
footprint DO214AC SMA
pins: 1, 2

## SM4T30CAY
designator D?
TVS DIODE 26V 53.5V SMA; Manufacturer: STMicroelectronics; Bidirectional Channels: 1; Current - Peak Pulse (10/1000µs): 43A (8/20µs); Power Line Protection: No; Power - Peak Pulse: 400W; Type: Zener; Voltage - Breakdown (Min): 28.9V; Part Number: SM4T30CAY; Applications: Automotive; ComponentLink1Description: Datasheet; ComponentLink1URL: http://www.st.com/content/ccc/resource/technical/document/datasheet/8f/86/c4/c9/63/e2/4c/58/CD00283395.pdf/files/CD00283395.pdf/jcr:content/translations/en.CD00283395.pdf; ComponentLink2Description: DigiKey Link; ComponentLink2URL: http://digikey.com/product-detail/en/stmicroelectronics/SM4T30CAY/497-10919-1-ND/2522542; LastUpdated: 9/2/2020 1:27:53 AM; Lifecycle Status: Active; Minimum Order: 1; Mounting Type: Surface Mount; Operating Temperature: -55°C ~ 150°C (TJ); Package / Case: DO-214AC, SMA; Packaging: TapeAndReel; PartId: 7541; Part Status: Active; Price: 0.31; Series: Automotive, AEC-Q101, SM4TY, TRANSIL™; Supplier 1: DigiKey; Supplier Part Number 1: 497-10919-1-ND; Supplier Device Package: SMA (DO-214AC); Voltage - Clamping (Max) @ Ipp: 53.5V; Voltage - Reverse Standoff (Typ): 26V
footprint DO214AC SMA
pins: 1, 2

## SM4T33AY
designator D?
TVS DIODE 28V 59V SMA; Manufacturer: STMicroelectronics; Current - Peak Pulse (10/1000µs): 39A (8/20µs); Power Line Protection: No; Power - Peak Pulse: 400W; Type: Zener; Unidirectional Channels: 1; Voltage - Breakdown (Min): 31.1V; Part Number: SM4T33AY; Applications: Automotive; ComponentLink1Description: Datasheet; ComponentLink1URL: http://www.st.com/content/ccc/resource/technical/document/datasheet/8f/86/c4/c9/63/e2/4c/58/CD00283395.pdf/files/CD00283395.pdf/jcr:content/translations/en.CD00283395.pdf; ComponentLink2Description: DigiKey Link; ComponentLink2URL: http://digikey.com/product-detail/en/stmicroelectronics/SM4T33AY/497-10920-1-ND/2522543; LastUpdated: 9/2/2020 1:20:16 AM; Lifecycle Status: Active; Minimum Order: 1; Mounting Type: Surface Mount; Operating Temperature: -55°C ~ 150°C (TJ); Package / Case: DO-214AC, SMA; Packaging: TapeAndReel; PartId: 5890; Part Status: Active; Price: 0.30; Series: Automotive, AEC-Q101, SM4TY, TRANSIL™; Supplier 1: DigiKey; Supplier Part Number 1: 497-10920-1-ND; Supplier Device Package: SMA (DO-214AC); Voltage - Clamping (Max) @ Ipp: 59V; Voltage - Reverse Standoff (Typ): 28V
footprint DO214AC SMA
pins: 1, 2

## SM4T33CAY
designator D?
TVS DIODE 28V 59V SMA; Manufacturer: STMicroelectronics; Bidirectional Channels: 1; Current - Peak Pulse (10/1000µs): 39A (8/20µs); Power Line Protection: No; Power - Peak Pulse: 400W; Type: Zener; Voltage - Breakdown (Min): 31.1V; Part Number: SM4T33CAY; Applications: Automotive; ComponentLink1Description: Datasheet; ComponentLink1URL: http://www.st.com/content/ccc/resource/technical/document/datasheet/8f/86/c4/c9/63/e2/4c/58/CD00283395.pdf/files/CD00283395.pdf/jcr:content/translations/en.CD00283395.pdf; ComponentLink2Description: DigiKey Link; ComponentLink2URL: http://digikey.com/product-detail/en/stmicroelectronics/SM4T33CAY/497-10921-1-ND/2522544; LastUpdated: 9/2/2020 1:27:51 AM; Lifecycle Status: Active; Minimum Order: 1; Mounting Type: Surface Mount; Operating Temperature: -55°C ~ 150°C (TJ); Package / Case: DO-214AC, SMA; Packaging: TapeAndReel; PartId: 7399; Part Status: Active; Price: 0.31; Series: Automotive, AEC-Q101, SM4TY, TRANSIL™; Supplier 1: DigiKey; Supplier Part Number 1: 497-10921-1-ND; Supplier Device Package: SMA (DO-214AC); Voltage - Clamping (Max) @ Ipp: 59V; Voltage - Reverse Standoff (Typ): 28V
footprint DO214AC SMA
pins: 1, 2

## SM4T35AY
designator D?
TVS DIODE 30V 64.3V SMA; Manufacturer: STMicroelectronics; Current - Peak Pulse (10/1000µs): 36A (8/20µs); Power Line Protection: No; Power - Peak Pulse: 400W; Type: Zener; Unidirectional Channels: 1; Voltage - Breakdown (Min): 33.3V; Part Number: SM4T35AY; Applications: Automotive; ComponentLink1Description: Datasheet; ComponentLink1URL: http://www.st.com/content/ccc/resource/technical/document/datasheet/8f/86/c4/c9/63/e2/4c/58/CD00283395.pdf/files/CD00283395.pdf/jcr:content/translations/en.CD00283395.pdf; ComponentLink2Description: DigiKey Link; ComponentLink2URL: http://digikey.com/product-detail/en/stmicroelectronics/SM4T35AY/497-10922-1-ND/2522545; LastUpdated: 9/2/2020 1:20:14 AM; Lifecycle Status: Active; Minimum Order: 1; Mounting Type: Surface Mount; Operating Temperature: -55°C ~ 150°C (TJ); Package / Case: DO-214AC, SMA; Packaging: TapeAndReel; PartId: 5737; Part Status: Active; Price: 0.30; Series: Automotive, AEC-Q101, SM4TY, TRANSIL™; Supplier 1: DigiKey; Supplier Part Number 1: 497-10922-1-ND; Supplier Device Package: SMA (DO-214AC); Voltage - Clamping (Max) @ Ipp: 64.3V; Voltage - Reverse Standoff (Typ): 30V
footprint DO214AC SMA
pins: 1, 2

## SM4T35CAY
designator D?
TVS DIODE 30V 64.3V SMA; Manufacturer: STMicroelectronics; Bidirectional Channels: 1; Current - Peak Pulse (10/1000µs): 36A (8/20µs); Power Line Protection: No; Power - Peak Pulse: 400W; Type: Zener; Voltage - Breakdown (Min): 33.3V; Part Number: SM4T35CAY; Applications: Automotive; ComponentLink1Description: Datasheet; ComponentLink1URL: http://www.st.com/content/ccc/resource/technical/document/datasheet/8f/86/c4/c9/63/e2/4c/58/CD00283395.pdf/files/CD00283395.pdf/jcr:content/translations/en.CD00283395.pdf; ComponentLink2Description: DigiKey Link; ComponentLink2URL: http://digikey.com/product-detail/en/stmicroelectronics/SM4T35CAY/497-10923-1-ND/2522546; LastUpdated: 9/2/2020 1:27:51 AM; Lifecycle Status: Active; Minimum Order: 1; Mounting Type: Surface Mount; Operating Temperature: -55°C ~ 150°C (TJ); Package / Case: DO-214AC, SMA; Packaging: TapeAndReel; PartId: 7398; Part Status: Active; Price: 0.31; Series: Automotive, AEC-Q101, SM4TY, TRANSIL™; Supplier 1: DigiKey; Supplier Part Number 1: 497-10923-1-ND; Supplier Device Package: SMA (DO-214AC); Voltage - Clamping (Max) @ Ipp: 64.3V; Voltage - Reverse Standoff (Typ): 30V
footprint DO214AC SMA
pins: 1, 2

## SM4T39AY
designator D?
TVS DIODE 33V 69.7V SMA; Manufacturer: STMicroelectronics; Current - Peak Pulse (10/1000µs): 33A (8/20µs); Power Line Protection: No; Power - Peak Pulse: 400W; Type: Zener; Unidirectional Channels: 1; Voltage - Breakdown (Min): 36.7V; Part Number: SM4T39AY; Applications: Automotive; ComponentLink1Description: Datasheet; ComponentLink1URL: http://www.st.com/content/ccc/resource/technical/document/datasheet/8f/86/c4/c9/63/e2/4c/58/CD00283395.pdf/files/CD00283395.pdf/jcr:content/translations/en.CD00283395.pdf; ComponentLink2Description: DigiKey Link; ComponentLink2URL: http://digikey.com/product-detail/en/stmicroelectronics/SM4T39AY/497-10924-1-ND/2522547; LastUpdated: 9/2/2020 1:20:16 AM; Lifecycle Status: Active; Minimum Order: 1; Mounting Type: Surface Mount; Operating Temperature: -55°C ~ 150°C (TJ); Package / Case: DO-214AC, SMA; Packaging: TapeAndReel; PartId: 5887; Part Status: Active; Price: 0.30; Series: Automotive, AEC-Q101, SM4TY, TRANSIL™; Supplier 1: DigiKey; Supplier Part Number 1: 497-10924-1-ND; Supplier Device Package: SMA (DO-214AC); Voltage - Clamping (Max) @ Ipp: 69.7V; Voltage - Reverse Standoff (Typ): 33V
footprint DO214AC SMA
pins: 1, 2

## SM4T39CAY
designator D?
TVS DIODE 33V 69.7V SMA; Manufacturer: STMicroelectronics; Bidirectional Channels: 1; Current - Peak Pulse (10/1000µs): 33A (8/20µs); Power Line Protection: No; Power - Peak Pulse: 400W; Type: Zener; Voltage - Breakdown (Min): 36.7V; Part Number: SM4T39CAY; Applications: Automotive; ComponentLink1Description: Datasheet; ComponentLink1URL: http://www.st.com/content/ccc/resource/technical/document/datasheet/8f/86/c4/c9/63/e2/4c/58/CD00283395.pdf/files/CD00283395.pdf/jcr:content/translations/en.CD00283395.pdf; ComponentLink2Description: DigiKey Link; ComponentLink2URL: http://digikey.com/product-detail/en/stmicroelectronics/SM4T39CAY/497-10925-1-ND/2522548; LastUpdated: 9/2/2020 1:27:51 AM; Lifecycle Status: Active; Minimum Order: 1; Mounting Type: Surface Mount; Operating Temperature: -55°C ~ 150°C (TJ); Package / Case: DO-214AC, SMA; Packaging: TapeAndReel; PartId: 7397; Part Status: Active; Price: 0.31; Series: Automotive, AEC-Q101, SM4TY, TRANSIL™; Supplier 1: DigiKey; Supplier Part Number 1: 497-10925-1-ND; Supplier Device Package: SMA (DO-214AC); Voltage - Clamping (Max) @ Ipp: 69.7V; Voltage - Reverse Standoff (Typ): 33V
footprint DO214AC SMA
pins: 1, 2

## SM4T47AY
designator D?
TVS DIODE 40V 84V SMA; Manufacturer: STMicroelectronics; Current - Peak Pulse (10/1000µs): 27A (8/20µs); Power Line Protection: No; Power - Peak Pulse: 400W; Type: Zener; Unidirectional Channels: 1; Voltage - Breakdown (Min): 44.4V; Part Number: SM4T47AY; Applications: Automotive; ComponentLink1Description: Datasheet; ComponentLink1URL: http://www.st.com/content/ccc/resource/technical/document/datasheet/8f/86/c4/c9/63/e2/4c/58/CD00283395.pdf/files/CD00283395.pdf/jcr:content/translations/en.CD00283395.pdf; ComponentLink2Description: DigiKey Link; ComponentLink2URL: http://digikey.com/product-detail/en/stmicroelectronics/SM4T47AY/497-10926-1-ND/2522549; LastUpdated: 9/2/2020 1:20:16 AM; Lifecycle Status: Active; Minimum Order: 1; Mounting Type: Surface Mount; Operating Temperature: -55°C ~ 150°C (TJ); Package / Case: DO-214AC, SMA; Packaging: TapeAndReel; PartId: 5889; Part Status: Active; Price: 0.30; Series: Automotive, AEC-Q101, SM4TY, TRANSIL™; Supplier 1: DigiKey; Supplier Part Number 1: 497-10926-1-ND; Supplier Device Package: SMA (DO-214AC); Voltage - Clamping (Max) @ Ipp: 84V; Voltage - Reverse Standoff (Typ): 40V
footprint DO214AC SMA
pins: 1, 2

## SM4T47CAY
designator D?
TVS DIODE 40V 84V SMA; Manufacturer: STMicroelectronics; Bidirectional Channels: 1; Current - Peak Pulse (10/1000µs): 27A (8/20µs); Power Line Protection: No; Power - Peak Pulse: 400W; Type: Zener; Voltage - Breakdown (Min): 44.4V; Part Number: SM4T47CAY; Applications: Automotive; ComponentLink1Description: Datasheet; ComponentLink1URL: http://www.st.com/content/ccc/resource/technical/document/datasheet/8f/86/c4/c9/63/e2/4c/58/CD00283395.pdf/files/CD00283395.pdf/jcr:content/translations/en.CD00283395.pdf; ComponentLink2Description: DigiKey Link; ComponentLink2URL: http://digikey.com/product-detail/en/stmicroelectronics/SM4T47CAY/497-10927-1-ND/2522550; LastUpdated: 9/2/2020 1:27:53 AM; Lifecycle Status: Active; Minimum Order: 1; Mounting Type: Surface Mount; Operating Temperature: -55°C ~ 150°C (TJ); Package / Case: DO-214AC, SMA; Packaging: TapeAndReel; PartId: 7540; Part Status: Active; Price: 0.31; Series: Automotive, AEC-Q101, SM4TY, TRANSIL™; Supplier 1: DigiKey; Supplier Part Number 1: 497-10927-1-ND; Supplier Device Package: SMA (DO-214AC); Voltage - Clamping (Max) @ Ipp: 84V; Voltage - Reverse Standoff (Typ): 40V
footprint DO214AC SMA
pins: 1, 2

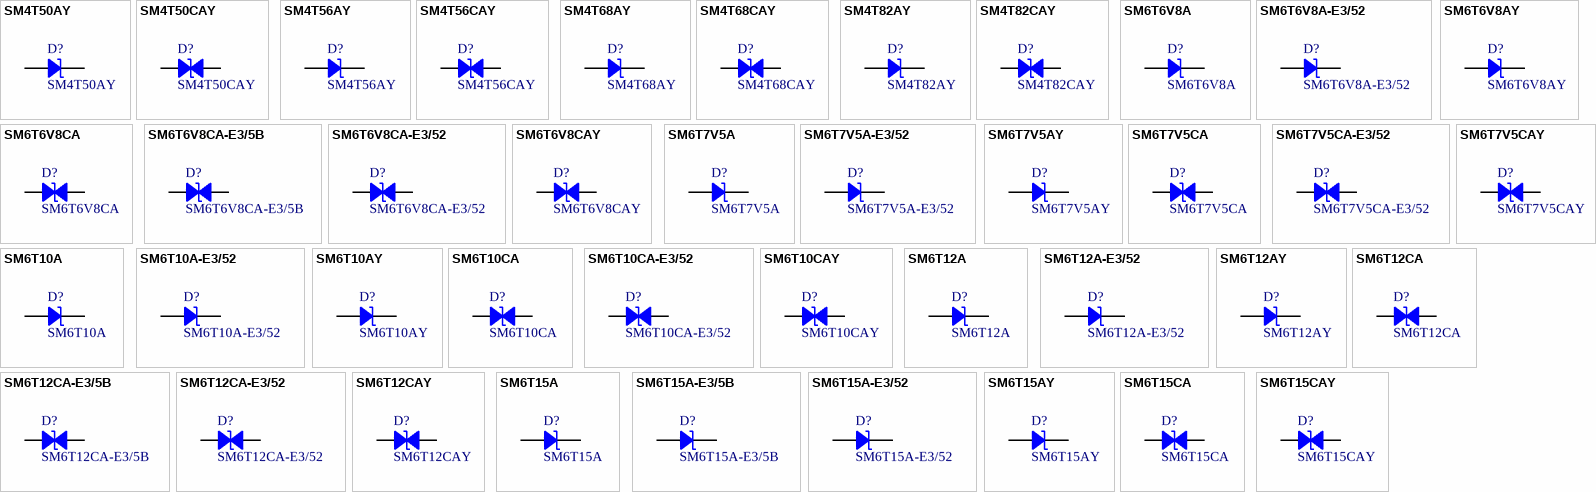
[diagram p41: symbols SM4T50AY to SM6T15CAY]

## SM4T50AY
designator D?
TVS DIODE 43V 91V SMA; Manufacturer: STMicroelectronics; Current - Peak Pulse (10/1000µs): 25A (8/20µs); Power Line Protection: No; Power - Peak Pulse: 400W; Type: Zener; Unidirectional Channels: 1; Voltage - Breakdown (Min): 47.8V; Part Number: SM4T50AY; Applications: Automotive; ComponentLink1Description: Datasheet; ComponentLink1URL: http://www.st.com/content/ccc/resource/technical/document/datasheet/8f/86/c4/c9/63/e2/4c/58/CD00283395.pdf/files/CD00283395.pdf/jcr:content/translations/en.CD00283395.pdf; ComponentLink2Description: DigiKey Link; ComponentLink2URL: http://digikey.com/product-detail/en/stmicroelectronics/SM4T50AY/497-11796-1-ND/2756612; LastUpdated: 9/2/2020 1:20:14 AM; Lifecycle Status: Active; Minimum Order: 1; Mounting Type: Surface Mount; Operating Temperature: -55°C ~ 150°C (TJ); Package / Case: DO-214AC, SMA; Packaging: TapeAndReel; PartId: 5722; Part Status: Active; Price: 0.17; Series: Automotive, AEC-Q101, SM4TY, TRANSIL™; Supplier 1: DigiKey; Supplier Part Number 1: 497-11796-1-ND; Supplier Device Package: SMA (DO-214AC); Voltage - Clamping (Max) @ Ipp: 91V; Voltage - Reverse Standoff (Typ): 43V
footprint DO214AC SMA
pins: 1, 2

## SM4T50CAY
designator D?
TVS DIODE 43V 91V SMA; Manufacturer: STMicroelectronics; Bidirectional Channels: 1; Current - Peak Pulse (10/1000µs): 25A (8/20µs); Power Line Protection: No; Power - Peak Pulse: 400W; Type: Zener; Voltage - Breakdown (Min): 47.8V; Part Number: SM4T50CAY; Applications: Automotive; ComponentLink1Description: Datasheet; ComponentLink1URL: http://www.st.com/content/ccc/resource/technical/document/datasheet/8f/86/c4/c9/63/e2/4c/58/CD00283395.pdf/files/CD00283395.pdf/jcr:content/translations/en.CD00283395.pdf; ComponentLink2Description: DigiKey Link; ComponentLink2URL: http://digikey.com/product-detail/en/stmicroelectronics/SM4T50CAY/497-11797-1-ND/2756611; LastUpdated: 9/2/2020 1:27:51 AM; Lifecycle Status: Active; Minimum Order: 1; Mounting Type: Surface Mount; Operating Temperature: -55°C ~ 150°C (TJ); Package / Case: DO-214AC, SMA; Packaging: TapeAndReel; PartId: 7361; Part Status: Active; Price: 0.18; Series: Automotive, AEC-Q101, SM4TY, TRANSIL™; Supplier 1: DigiKey; Supplier Part Number 1: 497-11797-1-ND; Supplier Device Package: SMA (DO-214AC); Voltage - Clamping (Max) @ Ipp: 91V; Voltage - Reverse Standoff (Typ): 43V
footprint DO214AC SMA
pins: 1, 2